# Altium footprint library type-c_pcb.PcbLib: 25 footprints (part 1 of 2)
Each footprint in its own frame and in the unit in brackets; x right, y up, seen from the top. Pads: shape width x height; smd on the part's side, far side on the other; paste and mask are expansions set on the pad; w line width, h text height; cw(c..) or ccw(c..) is an arc to the next point about the centre after c.
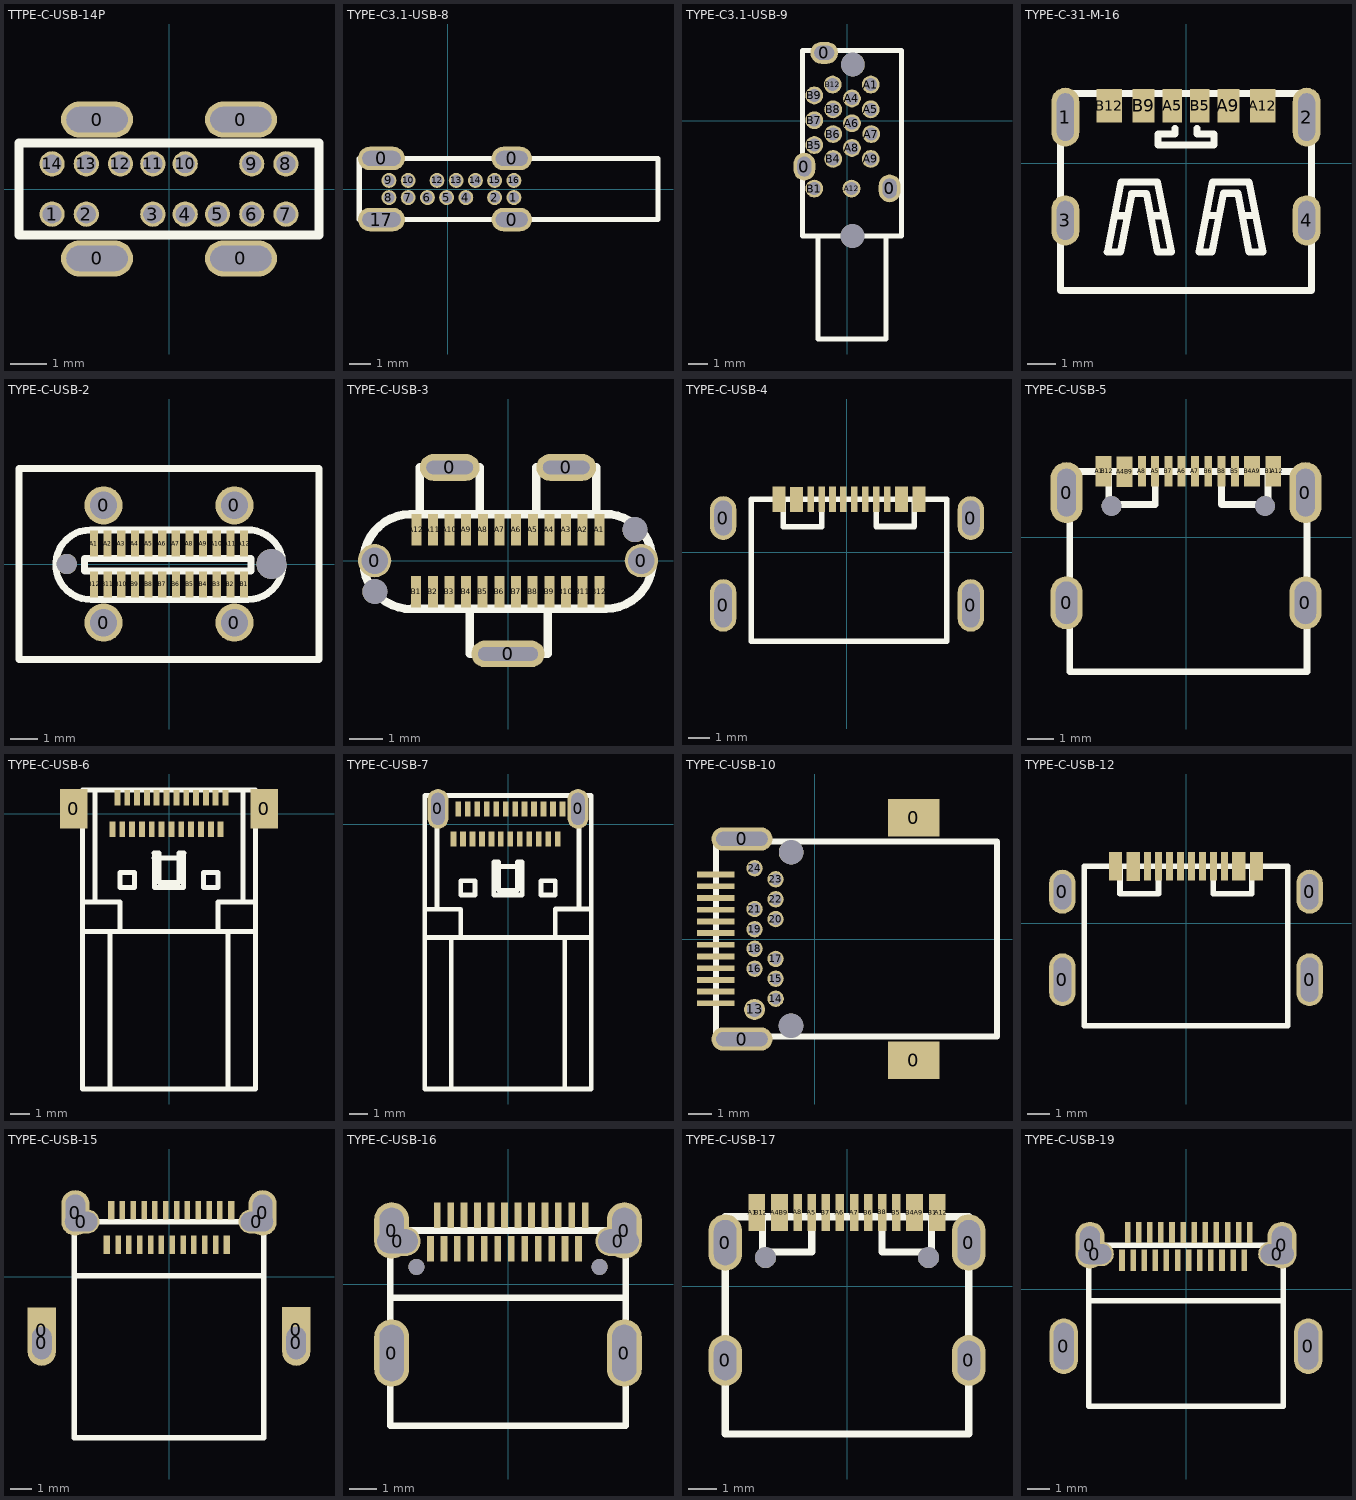
[diagram p0: the footprints below, top view; thin cyan lines are the x and y axes]

## TTPE-C-USB-14P [mm]
pads (18):
  oval 2x1 hole 0.7 slot 1.7 at 0 deg: 0(-2,-1.93) 0(-2,1.93) 0(2,-1.93) 0(2,1.93)
  round 0.7 hole 0.5 slot 0.525 at 0 deg: 1(-3.25,-0.7) 2(-2.3,-0.7) 3(-0.45,-0.7) 4(0.45,-0.7) 5(1.35,-0.7) 6(2.3,-0.7) 7(3.25,-0.7) 8(3.25,0.7) 9(2.3,0.7) 10(0.45,0.7) 11(-0.45,0.7) 12(-1.35,0.7) 13(-2.3,0.7) 14(-3.25,0.7)
Top Overlay:
  lines w0.254: -4.17,-1.28 4.17,-1.28 4.17,1.28 -4.17,1.28 -4.17,-1.28

## TYPE-C3.1-USB-8 [mm]
pads (18):
  oval 2.2x1.1 hole 0.7 slot 1.8 at 0 deg: 0(-3.1,1.43) 17(-3.1,-1.43)
  oval 1.9x1.1 hole 0.7 slot 1.5 at 0 deg: 0(3,-1.43) 0(3,1.43)
  round 0.7 hole 0.5: 1(3.1,-0.4) 2(2.2,-0.4) 4(0.85,-0.4) 5(-0.05,-0.4) 6(-0.95,-0.4) 7(-1.85,-0.4) 8(-2.75,-0.4) 9(-2.75,0.4) 10(-1.85,0.4) 12(-0.5,0.4) 13(0.4,0.4) 14(1.3,0.4) 15(2.2,0.4) 16(3.1,0.4)
Top Overlay:
  lines w0.254: -4.15,-1.43 9.85,-1.43 9.85,1.43 -4.15,1.43 -4.15,-1.43

## TYPE-C3.1-USB-9 [mm]
pads (21):
  oval 1.1x1.4 hole 0.7 slot 1 at 90 deg: 0(-2.15,-2.315) 0(2.15,-3.415)
  oval 1.4x1.1 hole 0.7 slot 1 at 0 deg: 0(-1.15,3.425)
  round 0.9 hole 0.65: A1(1.2,1.825) A4(0.25,1.125) A5(1.2,0.575) A6(0.25,-0.125) A7(1.223,-0.675) A8(0.25,-1.375) A9(1.2,-1.925) A12(0.227,-3.425) B1(-1.65,-3.425) B4(-0.7,-1.925) B5(-1.65,-1.225) B6(-0.7,-0.675) B7(-1.65,0.025) B8(-0.7,0.575) B9(-1.65,1.275) B12(-0.723,1.825)
  round 1.2 hole 1.2 unplated: ""(0.273,-5.815) ""(0.296,2.835)
Top Overlay:
  lines w0.254: -1.475,-5.815 -1.475,-11.015 1.975,-11.015 1.975,-5.815 ; -2.25,-5.815 2.75,-5.815 2.75,3.535 -2.25,3.535 -2.25,-5.815

## TYPE-C-31-M-16 [mm]
pads (10):
  oval 1x2.1 hole 0.6 slot 1.7 at 90 deg: 1(-4.32,1.65) 2(4.32,1.65)
  oval 1x1.8 hole 0.6 slot 1.4 at 90 deg: 3(-4.32,-2.05) 4(4.32,-2.05)
  rect 0.7x1.2 smd: A5(-0.5,2.05) B5(0.5,2.05)
  rect 0.8x1.2 smd: A9(1.52,2.05) B9(-1.52,2.05)
  rect 0.9x1.2 smd: A12(2.75,2.05) B12(-2.75,2.05)
Top Overlay:
  lines w0.25: -4.5,-4.55 4.5,-4.55 ; -4.5,-4.5 -4.5,2.49 2.794,2.489 4.5,2.49 4.5,-4.5 ; -1.01,0.65 1.01,0.65 ; -1,0.65 -1,1.05 -0.4,1.05 -0.4,1.25 ; 0.4,1.25 0.4,1.05 1,1.05 1,0.65
  lines w0.254: -2.518,-1.883 -2.119,-1.883 ; -1.219,-1.882 -0.819,-1.882 ; 0.759,-1.878 1.158,-1.878 ; 2.058,-1.877 2.458,-1.877 ; -2.818,-3.183 -2.343,-3.183 -1.941,-1.083 -1.413,-1.083 -1.014,-3.183 -0.519,-3.183 -1.019,-0.681 -2.32,-0.681 -2.818,-3.183 ; 0.459,-3.178 0.934,-3.178 1.335,-1.078 1.864,-1.078 2.263,-3.178 2.758,-3.178 2.257,-0.676 0.957,-0.676 0.459,-3.178

## TYPE-C-USB-2 [mm]
pads (30):
  round 1.4 hole 1: 0(-2.401,-2.15) 0(-2.401,2.15) 0(2.399,-2.15) 0(2.399,2.15)
  rect 0.3x0.95 smd: A1(-2.751,0.75) A2(-2.251,0.75) A3(-1.751,0.75) A4(-1.251,0.75) A5(-0.751,0.75) A6(-0.251,0.75) A7(0.249,0.75) A8(0.749,0.75) A9(1.249,0.75) A10(1.749,0.75) A11(2.249,0.75) A12(2.749,0.75) B1(2.751,-0.752) B2(2.251,-0.752) B3(1.751,-0.752) B4(1.251,-0.752) B5(0.751,-0.752) B6(0.251,-0.752) B7(-0.249,-0.752) B8(-0.749,-0.752) B9(-1.249,-0.752) B10(-1.749,-0.752) B11(-2.249,-0.752) B12(-2.749,-0.752)
  round 0.75 hole 0.75 unplated: ""(-3.751,0)
  round 1.1 hole 1.1 unplated: ""(3.749,0.003)
Top Overlay:
  lines w0.254: -5.501,3.5 5.499,3.5 5.499,-3.5 ; -5.5,3.5 -5.5,-3.5 5.498,-3.5 ; -3.101,-0.25 2.999,-0.25 2.999,0.2 -3.101,0.2 -3.101,-0.2 ; -2.877,1.25 ccw(c-2.879,-0.026) -2.828,-1.3 ; -2.851,-1.3 2.899,-1.3 ccw(c2.899,-0.025) 2.849,1.25 -2.851,1.25

## TYPE-C-USB-3 [mm]
pads (31):
  round 1 hole 0.8: 0(-4.005,0) 0(4.005,0)
  oval 1.8x0.8 hole 0.4 slot 1.4 at 0 deg: 0(-1.75,2.8) 0(1.75,2.8)
  oval 2.2x0.8 hole 0.4 slot 1.8 at 0 deg: 0(0,-2.8)
  rect 0.3x0.95 smd: A1(2.745,0.93) A2(2.245,0.93) A3(1.745,0.93) A4(1.245,0.93) A5(0.745,0.93) A6(0.245,0.93) A7(-0.255,0.93) A8(-0.755,0.93) A9(-1.255,0.93) A10(-1.755,0.93) A11(-2.255,0.93) A12(-2.755,0.93) B1(-2.759,-0.93) B2(-2.259,-0.93) B3(-1.759,-0.93) B4(-1.259,-0.93) B5(-0.759,-0.93) B6(-0.259,-0.93) B7(0.241,-0.93) B8(0.741,-0.93) B9(1.241,-0.93) B10(1.741,-0.93) B11(2.241,-0.93) B12(2.741,-0.93)
  round 0.75 hole 0.75 unplated: ""(-4,-0.93) ""(3.81,0.93)
Top Overlay:
  lines w0.254: -2.95,1.4 2.85,1.4 ; -2.948,1.398 ccw(c-2.915,-0.026) -2.898,-1.452 ; -2.9,-1.45 2.95,-1.45 ccw(c2.92,-0.025) 2.9,1.4 ; -2.649,1.4 -2.649,2.799 -0.851,2.799 -0.851,1.4 ; -0.851,-1.45 -1.151,-1.45 -1.151,-2.799 1.199,-2.799 1.199,-1.45 0.95,-1.45 ; 0.851,1.4 0.851,2.799 2.649,2.799 2.649,1.4

## TYPE-C-USB-4 [mm]
pads (20):
  oval 1.2x2.4 hole 0.8 slot 2 at 90 deg: 0(-5.663,-2.43) 0(5.663,-2.43)
  oval 1.2x2 hole 0.8 slot 1.6 at 90 deg: 0(-5.663,1.57) 0(5.663,1.57)
  rect 0.3x1.15 smd: A1(-3.263,2.428) A4(-2.462,2.426) A5(-1.162,2.43) A6(-0.162,2.43) A7(0.337,2.428) A8(1.337,2.43) A9(2.638,2.43) A12(3.438,2.43) B1(3.138,2.43) B4(2.337,2.43) B5(1.838,2.43) B6(0.838,2.43) B7(-0.663,2.428) B8(-1.663,2.43) B9(-2.162,2.426) B12(-2.963,2.428)
Top Overlay:
  lines w0.254: -2.912,2.43 -2.912,1.18 -1.162,1.18 -1.162,2.43 ; 1.334,2.432 1.334,1.182 3.084,1.182 3.084,2.432 ; -4.382,-4.07 -4.382,2.43 4.557,2.43 4.557,-4.07 -4.382,-4.07

## TYPE-C-USB-5 [mm]
pads (22):
  oval 1.2x2 hole 0.8 slot 1.6 at 90 deg: 0(-4.5,-2.475) 0(4.5,-2.475)
  oval 1.2x2.3 hole 0.7 slot 1.8 at 90 deg: 0(-4.5,1.675) 0(4.5,1.675)
  rect 0.3x1.15 smd: A1(-3.263,2.473) A4(-2.462,2.471) A5(-1.162,2.475) A6(-0.162,2.475) A7(0.337,2.473) A8(-1.663,2.475) A9(2.638,2.475) A12(3.438,2.475) B1(3.138,2.475) B4(2.337,2.475) B5(1.838,2.475) B6(0.838,2.475) B7(-0.663,2.473) B8(1.337,2.475) B9(-2.162,2.471) B12(-2.963,2.473)
  round 0.75 hole 0.75 unplated: ""(-2.803,1.175) ""(2.978,1.175)
Top Overlay:
  lines w0.254: -2.912,2.475 -2.912,1.225 -1.162,1.225 -1.162,2.475 ; 1.334,2.477 1.334,1.227 3.084,1.227 3.084,2.477 ; -4.382,-5.075 -4.382,2.475 4.557,2.475 4.557,-5.075 -4.382,-5.075

## TYPE-C-USB-6 [mm]
pads (26):
  rect 1.4x2 smd: 0(-4.85,0.25) 0(4.85,0.25)
  rect 0.3x0.8 smd: A1(2.874,0.799) A2(2.374,0.799) A3(1.876,0.799) A4(1.376,0.799) A5(0.875,0.799) A6(0.375,0.799) A7(-0.126,0.799) A8(-0.626,0.799) A9(-1.125,0.799) A10(-1.624,0.799) A11(-2.125,0.799) A12(-2.625,0.799) B1(-2.875,-0.799) B2(-2.375,-0.799) B3(-1.875,-0.799) B4(-1.374,-0.799) B5(-0.875,-0.799) B6(-0.376,-0.799) B7(0.124,-0.799) B8(0.625,-0.799) B9(1.125,-0.799) B10(1.625,-0.799) B11(2.126,-0.799) B12(2.625,-0.799)
Top Overlay:
  lines w0.254: -4.4,-6 4.4,-6 ; -4.4,-4.5 -2.5,-4.5 -2.5,-6 ; -3.75,-4.5 -3.75,1.2 ; -3,-14 -3,-6 ; -0.75,-2.25 0.5,-2.25 ; -0.75,-2 -0.5,-2 -0.5,-3.5 0.5,-3.5 0.5,-2 0.75,-2 ; -0.749,-1.999 -0.749,-3.749 0.749,-3.749 0.749,-1.999 ; 2.498,-5.997 2.498,-4.498 4.398,-4.498 ; 3,-14 3,-6 ; 3.75,-4.5 3.75,1.2 ; -4.4,-14 -4.4,1.2 4.4,1.2 4.4,-14 -4.4,-14 ; -2.5,-3.75 -1.75,-3.75 -1.75,-3 -2.5,-3 -2.5,-3.75 ; 1.748,-3.747 2.498,-3.747 2.498,-2.997 1.748,-2.997 1.748,-3.747

## TYPE-C-USB-7 [mm]
pads (26):
  oval 1.1x2.1 hole 0.7 slot 1.7 at 90 deg: 0(-3.7,0.8) 0(3.7,0.8)
  rect 0.3x0.8 smd: A1(2.875,0.799) A2(2.374,0.799) A3(1.876,0.799) A4(1.376,0.799) A5(0.875,0.799) A6(0.375,0.799) A7(-0.125,0.799) A8(-0.626,0.799) A9(-1.125,0.799) A10(-1.624,0.799) A11(-2.124,0.799) A12(-2.625,0.799) B1(-2.875,-0.8) B2(-2.375,-0.8) B3(-1.875,-0.8) B4(-1.374,-0.8) B5(-0.875,-0.8) B6(-0.376,-0.8) B7(0.124,-0.8) B8(0.625,-0.8) B9(1.125,-0.8) B10(1.626,-0.8) B11(2.126,-0.8) B12(2.625,-0.8)
Top Overlay:
  lines w0.254: -4.4,-6 4.4,-6 ; -4.4,-4.5 -2.5,-4.5 -2.5,-6 ; -3.75,-4.5 -3.75,1.2 ; -3,-14 -3,-6 ; -0.75,-2.25 0.5,-2.25 ; -0.75,-2 -0.5,-2 -0.5,-3.5 0.5,-3.5 0.5,-2 0.75,-2 ; -0.749,-1.999 -0.749,-3.749 0.749,-3.749 0.749,-1.999 ; 2.498,-5.998 2.498,-4.498 4.398,-4.498 ; 3,-14 3,-6 ; 3.75,-4.5 3.75,1.2 ; -4.4,-14 -4.4,1.5 4.4,1.5 4.4,-14 -4.4,-14 ; -2.5,-3.75 -1.75,-3.75 -1.75,-3 -2.5,-3 -2.5,-3.75 ; 1.748,-3.748 2.498,-3.748 2.498,-2.998 1.748,-2.998 1.748,-3.748

## TYPE-C-USB-10 [mm]
pads (30):
  oval 2.6x1 hole 0.6 slot 2.2 at 0 deg: 0(-3.115,-4.275) 0(-3.115,4.275)
  rect 2.2x1.6 smd: 0(4.235,-5.175) 0(4.235,5.175)
  rect 1.6x0.25 smd: 1(-4.235,2.75) 2(-4.235,2.251) 3(-4.235,1.752) 4(-4.235,1.251) 5(-4.235,0.752) 6(-4.235,0.251) 7(-4.235,-0.248) 8(-4.235,-0.75) 9(-4.235,-1.248) 10(-4.235,-1.749) 11(-4.235,-2.248) 12(-4.235,-2.749)
  round 0.9 hole 0.65: 13(-2.575,-3.01)
  round 0.7 hole 0.5: 14(-1.675,-2.55) 15(-1.675,-1.7) 16(-2.575,-1.27) 17(-1.675,-0.85) 18(-2.575,-0.42) 19(-2.575,0.42) 20(-1.675,0.85) 21(-2.575,1.28) 22(-1.675,1.7) 23(-1.675,2.55) 24(-2.575,3.02)
  round 1.05 hole 1.05 unplated: ""(-1.017,-3.71) ""(-1.013,3.71)
Top Overlay:
  lines w0.254: -4.215,-4.17 -4.215,4.17 7.785,4.17 7.785,-4.17 -4.215,-4.17

## TYPE-C-USB-12 [mm]
pads (20):
  oval 1.2x2.4 hole 0.8 slot 2 at 90 deg: 0(-5.62,-2.575) 0(5.62,-2.575)
  oval 1.2x2 hole 0.8 slot 1.6 at 90 deg: 0(-5.62,1.425) 0(5.62,1.425)
  rect 0.3x1.3 smd: A1(-3.35,2.574) A4(-2.55,2.571) A5(-1.25,2.575) A6(-0.25,2.575) A7(0.25,2.574) A8(1.25,2.575) A9(2.55,2.575) A12(3.35,2.575) B1(3.05,2.575) B4(2.25,2.575) B5(1.75,2.575) B6(0.75,2.575) B7(-0.75,2.574) B8(-1.75,2.575) B9(-2.25,2.571) B12(-3.05,2.574)
Top Overlay:
  lines w0.254: -3,2.575 -3,1.325 -1.25,1.325 -1.25,2.575 ; 1.247,2.577 1.247,1.327 2.997,1.327 2.997,2.577 ; -4.62,-4.675 -4.62,2.575 4.62,2.575 4.62,-4.675 -4.62,-4.675

## TYPE-C-USB-15 [mm]
pads (32):
  oval 1.3x2.1 hole 0.9 slot 1.5 at 90 deg: 0(-5.87,-3.062) 0(5.87,-3.062)
  rect 1.3x2.1 smd: 0(-5.87,-2.464) 0(5.87,-2.463)
  oval 1.3x2.1 hole 0.9 slot 1.7 at 90 deg: 0(-4.32,2.938) 0(4.32,2.938)
  oval 1.7x1.1 hole 0.9 slot 1.5 at 0 deg: 0(-4.05,2.538) 0(4.05,2.536)
  rect 0.3x0.85 smd: A1(-2.675,3.062) A12(2.875,3.062) B1(2.675,1.463) B12(-2.875,1.463)
  rect 0.25x0.85 smd: A2(-2.15,3.062) A3(-1.65,3.062) A4(-1.15,3.062) A5(-0.65,3.062) A6(-0.15,3.062) A7(0.35,3.062) A8(0.85,3.062) A9(1.35,3.062) A10(1.85,3.062) A11(2.35,3.062) B2(2.15,1.463) B3(1.65,1.463) B4(1.15,1.463) B5(0.65,1.463) B6(0.15,1.463) B7(-0.35,1.463) B8(-0.85,1.463) B9(-1.35,1.463) B10(-1.85,1.463) B11(-2.35,1.463)
Top Overlay:
  lines w0.254: -4.37,0.039 4.37,0.039 ; -4.37,-7.438 -4.37,2.537 4.37,2.537 4.37,-7.438 -4.37,-7.438

## TYPE-C-USB-16 [mm]
pads (32):
  oval 1.3x2.5 hole 0.9 slot 2.1 at 90 deg: 0(-4.32,-2.56) 0(4.32,-2.56)
  oval 1.3x2.1 hole 0.9 slot 1.7 at 90 deg: 0(-4.32,1.99) 0(4.32,1.99)
  oval 1.7x1.1 hole 0.9 slot 1.5 at 0 deg: 0(-4.1,1.59) 0(4.1,1.59)
  rect 0.25x0.95 smd: A1(-2.63,2.56) A2(-2.13,2.56) A3(-1.63,2.56) A4(-1.13,2.56) A5(-0.63,2.56) A6(-0.13,2.56) A7(0.37,2.56) A8(0.87,2.56) A9(1.37,2.56) A10(1.87,2.56) A11(2.37,2.56) A12(2.87,2.56) B1(2.62,1.31) B2(2.12,1.31) B3(1.62,1.31) B4(1.12,1.31) B5(0.62,1.31) B6(0.12,1.31) B7(-0.38,1.31) B8(-0.88,1.31) B9(-1.38,1.31) B10(-1.88,1.31) B11(-2.38,1.31) B12(-2.88,1.31)
  round 0.6 hole 0.6 unplated: ""(-3.4,0.64) ""(3.4,0.64)
Top Overlay:
  lines w0.254: -4.37,-5.26 4.37,-5.26 4.37,1.99 -4.37,1.99 -4.37,-5.21 ; -4.37,-0.509 4.37,-0.509

## TYPE-C-USB-17 [mm]
pads (22):
  oval 1.2x1.8 hole 0.8 slot 1.4 at 90 deg: 0(-4.32,-2.624) 0(4.32,-2.624)
  oval 1.2x2 hole 0.8 slot 1.6 at 90 deg: 0(-4.32,1.556) 0(4.32,1.556)
  rect 0.3x1.3 smd: A1(-3.35,2.623) A4(-2.55,2.623) A5(-1.25,2.623) A6(-0.25,2.623) A7(0.25,2.623) A8(-1.75,2.624) A9(2.55,2.623) A12(3.35,2.623) B1(3.05,2.623) B4(2.25,2.623) B5(1.75,2.623) B6(0.75,2.623) B7(-0.75,2.623) B8(1.25,2.624) B9(-2.25,2.623) B12(-3.05,2.623)
  round 0.75 hole 0.75 unplated: ""(-2.89,1.026) ""(2.89,1.026)
Top Overlay:
  lines w0.254: -3,2.471 -3,1.221 -1.25,1.221 -1.25,2.471 ; 1.247,2.473 1.247,1.223 2.997,1.223 2.997,2.473 ; -4.32,-5.227 -4.32,2.471 4.32,2.471 4.32,-5.227 -4.32,-5.227

## TYPE-C-USB-19 [mm]
pads (30):
  oval 1.3x2.5 hole 0.9 slot 2.1 at 90 deg: 0(-5.5,-2.56) 0(5.5,-2.56)
  oval 1.3x2.1 hole 0.9 slot 1.7 at 90 deg: 0(-4.32,1.99) 0(4.32,1.99)
  oval 1.7x1.1 hole 0.9 slot 1.5 at 0 deg: 0(-4.1,1.59) 0(4.1,1.59)
  rect 0.25x0.95 smd: A1(-2.63,2.56) A2(-2.13,2.56) A3(-1.63,2.56) A4(-1.13,2.56) A5(-0.63,2.56) A6(-0.13,2.56) A7(0.37,2.56) A8(0.87,2.56) A9(1.37,2.56) A10(1.87,2.56) A11(2.37,2.56) A12(2.87,2.56) B1(2.62,1.31) B2(2.12,1.31) B3(1.62,1.31) B4(1.12,1.31) B5(0.62,1.31) B6(0.12,1.31) B7(-0.38,1.31) B8(-0.88,1.31) B9(-1.38,1.31) B10(-1.88,1.31) B11(-2.38,1.31) B12(-2.88,1.31)
Top Overlay:
  lines w0.254: -4.37,-5.26 4.37,-5.26 4.37,1.99 -4.37,1.99 -4.37,-5.21 ; -4.37,-0.509 4.37,-0.509